# EAGLE library part TPS62142RGTR (library TPS62142RGTR)
Check availability <https://pricing.snapeda.com/parts/TPS62142RGTR/Texas%20Instruments/view-part?ref=eda>
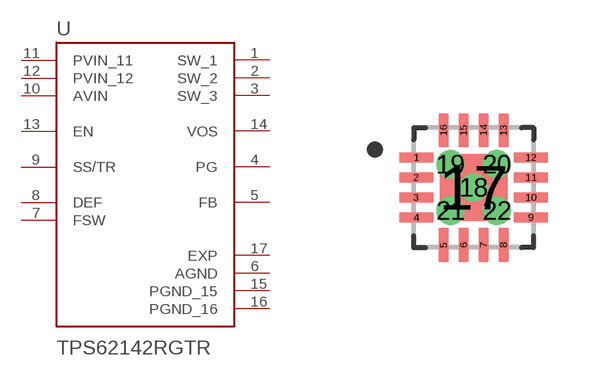
[diagram p0: symbol with the pads of QFN50P300X300X100-17N; footprint QFN50P300X300X100-17N]

Designator prefix U

## TPS62142RGTR (Availability: In Stock; Check_prices: https://www.snapeda.com/parts/TPS62142RGTR/Texas+Instruments/view-part/?ref=eda; Description: 3–17V 2A Step-Down Converter in 3x3 QFN package; MF: Texas Instruments; MP: TPS62142RGTR; Package: VQFN-16 Texas Instruments; Price: None; SnapEDA_Link: https://www.snapeda.com/parts/TPS62142RGTR/Texas+Instruments/view-part/?ref=snap)  [QFN50P300X300X100-17N]
1  SW_1  out
2  SW_2  out
3  SW_3  out
4  PG  out
5  FB  in
6  AGND  pwr
7  FSW  in
8  DEF  in
9  SS/TR  in
10  AVIN  in
11  PVIN_11  in
12  PVIN_12  in
13  EN  in
14  VOS  in
15  PGND_15  pwr
16  PGND_16  pwr
17  EXP  pwr

## Footprint QFN50P300X300X100-17N (pad centres in mm)
smd 0.86 x 0.26: 1 -1.435,0.75; 2 -1.435,0.25; 3 -1.435,-0.25; 4 -1.435,-0.75; 9 1.435,-0.75; 10 1.435,-0.25; 11 1.435,0.25; 12 1.435,0.75
smd 0.26 x 0.86: 5 -0.75,-1.435; 6 -0.25,-1.435; 7 0.25,-1.435; 8 0.75,-1.435; 13 0.75,1.435; 14 0.25,1.435; 15 -0.25,1.435; 16 -0.75,1.435
smd 1.68 x 1.68: 17 0,0
drill 0.2 pad 0.4: 18 0,0; 19 -0.58,0.58; 20 0.58,0.58; 21 -0.58,-0.58; 22 0.58,-0.58